# EAGLE library part RASPBERRY-PI-PICO-W (library Module)
Raspberry Pi Pico W
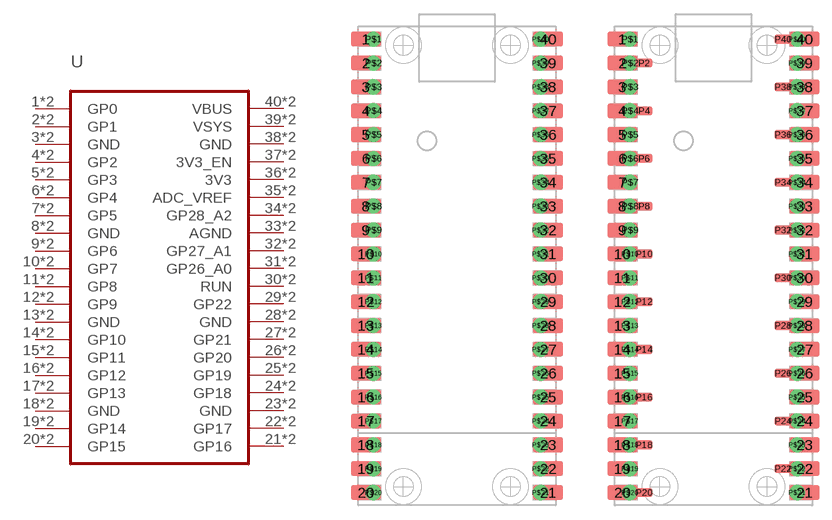
[diagram p22: symbol with the pads of RASPBERRY-PI-PICO-W; footprints RASPBERRY-PI-PICO-W, RASPBERRY-PI-PICO-W-SINGLE-ROW-HEADER]

Designator prefix U

## RASPBERRY-PI-PICO-W_(SMD) (MPN: RPI Pico W)  [RASPBERRY-PI-PICO-W]
1  GP0
2  GP1
3  GND
4  GP2
5  GP3
6  GP4
7  GP5
8  GND
9  GP6
10  GP7
11  GP8
12  GP9
13  GND
14  GP10
15  GP11
16  GP12
17  GP13
18  GND
19  GP14
20  GP15
21  GP16
22  GP17
23  GND
24  GP18
25  GP19
26  GP20
27  GP21
28  GND
29  GP22
30  RUN
31  GP26_A0
32  GP27_A1
33  AGND
34  GP28_A2
35  ADC_VREF
36  3V3
37  3V3_EN
38  GND
39  VSYS
40  VBUS
P$1  GP0
P$2  GP1
P$3  GND
P$4  GP2
P$5  GP3
P$6  GP4
P$7  GP5
P$8  GND
P$9  GP6
P$10  GP7
P$11  GP8
P$12  GP9
P$13  GND
P$14  GP10
P$15  GP11
P$16  GP12
P$17  GP13
P$18  GND
P$19  GP14
P$20  GP15
P$21  GP16
P$22  GP17
P$23  GND
P$24  GP18
P$25  GP19
P$26  GP20
P$27  GP21
P$28  GND
P$29  GP22
P$30  RUN
P$31  GP26_A0
P$32  GP27_A1
P$33  AGND
P$34  GP28_A2
P$35  ADC_VREF
P$36  3V3
P$37  3V3_EN
P$38  GND
P$39  VSYS
P$40  VBUS

## RASPBERRY-PI-PICO-W_(HYBRID)  [RASPBERRY-PI-PICO-W-SINGLE-ROW-HEADER]
1  GP0
2  GP1
3  GND
4  GP2
5  GP3
6  GP4
7  GP5
8  GND
9  GP6
10  GP7
11  GP8
12  GP9
13  GND
14  GP10
15  GP11
16  GP12
17  GP13
18  GND
19  GP14
20  GP15
21  GP16
22  GP17
23  GND
24  GP18
25  GP19
26  GP20
27  GP21
28  GND
29  GP22
30  RUN
31  GP26_A0
32  GP27_A1
33  AGND
34  GP28_A2
35  ADC_VREF
36  3V3
37  3V3_EN
38  GND
39  VSYS
40  VBUS
P2  GP1
P4  GP2
P6  GP4
P8  GND
P10  GP7
P12  GP9
P14  GP10
P16  GP12
P18  GND
P20  GP15
P22  GP17
P24  GP18
P26  GP20
P28  GND
P30  RUN
P32  GP27_A1
P34  GP28_A2
P36  3V3
P38  GND
P40  VBUS
P$1  GP0
P$2  GP1
P$3  GND
P$4  GP2
P$5  GP3
P$6  GP4
P$7  GP5
P$8  GND
P$9  GP6
P$10  GP7
P$11  GP8
P$12  GP9
P$13  GND
P$14  GP10
P$15  GP11
P$16  GP12
P$17  GP13
P$18  GND
P$19  GP14
P$20  GP15
P$21  GP16
P$22  GP17
P$23  GND
P$24  GP18
P$25  GP19
P$26  GP20
P$27  GP21
P$28  GND
P$29  GP22
P$30  RUN
P$31  GP26_A0
P$32  GP27_A1
P$33  AGND
P$34  GP28_A2
P$35  ADC_VREF
P$36  3V3
P$37  3V3_EN
P$38  GND
P$39  VSYS
P$40  VBUS

## Footprint RASPBERRY-PI-PICO-W (pad centres in mm)
Raspberry Pi Pico W
smd 3.2 x 1.6: 1 -9.69,24.13; 2 -9.69,21.59; 3 -9.69,19.05; 4 -9.69,16.51; 5 -9.69,13.97; 6 -9.69,11.43; 7 -9.69,8.89; 8 -9.69,6.35; 9 -9.69,3.81; 10 -9.69,1.27; 11 -9.69,-1.27; 12 -9.69,-3.81; 13 -9.69,-6.35; 14 -9.69,-8.89; 15 -9.69,-11.43; 16 -9.69,-13.97; 17 -9.69,-16.51; 18 -9.69,-19.05; 19 -9.69,-21.59; 20 -9.69,-24.13; 21 9.69,-24.13; 22 9.69,-21.59; 23 9.69,-19.05; 24 9.69,-16.51; 25 9.69,-13.97; 26 9.69,-11.43; 27 9.69,-8.89; 28 9.69,-6.35; 29 9.69,-3.81; 30 9.69,-1.27; 31 9.69,1.27; 32 9.69,3.81; 33 9.69,6.35; 34 9.69,8.89; 35 9.69,11.43; 36 9.69,13.97; 37 9.69,16.51; 38 9.69,19.05; 39 9.69,21.59; 40 9.69,24.13
drill 1 pad 1.6: P$1 -8.89,24.13; P$2 -8.89,21.59; P$3 -8.89,19.05; P$4 -8.89,16.51; P$5 -8.89,13.97; P$6 -8.89,11.43; P$7 -8.89,8.89; P$8 -8.89,6.35; P$9 -8.89,3.81; P$10 -8.89,1.27; P$11 -8.89,-1.27; P$12 -8.89,-3.81; P$13 -8.89,-6.35; P$14 -8.89,-8.89; P$15 -8.89,-11.43; P$16 -8.89,-13.97; P$17 -8.89,-16.51; P$18 -8.89,-19.05; P$19 -8.89,-21.59; P$20 -8.89,-24.13; P$21 8.89,-24.13; P$22 8.89,-21.59; P$23 8.89,-19.05; P$24 8.89,-16.51; P$25 8.89,-13.97; P$26 8.89,-11.43; P$27 8.89,-8.89; P$28 8.89,-6.35; P$29 8.89,-3.81; P$30 8.89,-1.27; P$31 8.89,1.27; P$32 8.89,3.81; P$33 8.89,6.35; P$34 8.89,8.89; P$35 8.89,11.43; P$36 8.89,13.97; P$37 8.89,16.51; P$38 8.89,19.05; P$39 8.89,21.59; P$40 8.89,24.13

## Footprint RASPBERRY-PI-PICO-W-SINGLE-ROW-HEADER (pad centres in mm)
Raspberry Pi Pico W with single row header
smd 3.2 x 1.6: 1 -9.69,24.13; 2 -9.69,21.59; 3 -9.69,19.05; 4 -9.69,16.51; 5 -9.69,13.97; 6 -9.69,11.43; 7 -9.69,8.89; 8 -9.69,6.35; 9 -9.69,3.81; 10 -9.69,1.27; 11 -9.69,-1.27; 12 -9.69,-3.81; 13 -9.69,-6.35; 14 -9.69,-8.89; 15 -9.69,-11.43; 16 -9.69,-13.97; 17 -9.69,-16.51; 18 -9.69,-19.05; 19 -9.69,-21.59; 20 -9.69,-24.13; 21 9.69,-24.13; 22 9.69,-21.59; 23 9.69,-19.05; 24 9.69,-16.51; 25 9.69,-13.97; 26 9.69,-11.43; 27 9.69,-8.89; 28 9.69,-6.35; 29 9.69,-3.81; 30 9.69,-1.27; 31 9.69,1.27; 32 9.69,3.81; 33 9.69,6.35; 34 9.69,8.89; 35 9.69,11.43; 36 9.69,13.97; 37 9.69,16.51; 38 9.69,19.05; 39 9.69,21.59; 40 9.69,24.13
smd 1.8 x 1: P2 -7.39,21.59; P4 -7.39,16.51; P6 -7.39,11.43; P8 -7.39,6.35; P10 -7.39,1.27; P12 -7.39,-3.81; P14 -7.39,-8.89; P16 -7.39,-13.97; P18 -7.39,-19.05; P20 -7.39,-24.13; P22 7.39,-21.59; P24 7.39,-16.51; P26 7.39,-11.43; P28 7.39,-6.35; P30 7.39,-1.27; P32 7.39,3.81; P34 7.39,8.89; P36 7.39,13.97; P38 7.39,19.05; P40 7.39,24.13
drill 1 pad 1.6: P$1 -8.89,24.13; P$2 -8.89,21.59; P$3 -8.89,19.05; P$4 -8.89,16.51; P$5 -8.89,13.97; P$6 -8.89,11.43; P$7 -8.89,8.89; P$8 -8.89,6.35; P$9 -8.89,3.81; P$10 -8.89,1.27; P$11 -8.89,-1.27; P$12 -8.89,-3.81; P$13 -8.89,-6.35; P$14 -8.89,-8.89; P$15 -8.89,-11.43; P$16 -8.89,-13.97; P$17 -8.89,-16.51; P$18 -8.89,-19.05; P$19 -8.89,-21.59; P$20 -8.89,-24.13; P$21 8.89,-24.13; P$22 8.89,-21.59; P$23 8.89,-19.05; P$24 8.89,-16.51; P$25 8.89,-13.97; P$26 8.89,-11.43; P$27 8.89,-8.89; P$28 8.89,-6.35; P$29 8.89,-3.81; P$30 8.89,-1.27; P$31 8.89,1.27; P$32 8.89,3.81; P$33 8.89,6.35; P$34 8.89,8.89; P$35 8.89,11.43; P$36 8.89,13.97; P$37 8.89,16.51; P$38 8.89,19.05; P$39 8.89,21.59; P$40 8.89,24.13